# Altium schematic symbol library SCH - POWER - SWITCHMODE - TI TPS54618C-Q1RTE.SchLib: 1 symbol
Pins are listed as number, name and electrical type; pins without a type are passive.

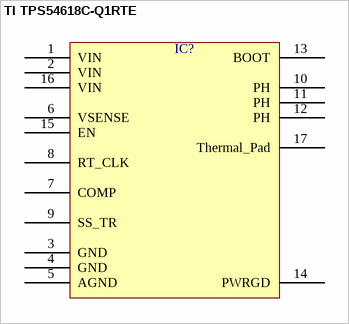
[diagram p0: symbol TI TPS54618C-Q1RTE]

## TI TPS54618C-Q1RTE
designator IC?  (value not drawn)
pins: 1 VIN, 2 VIN, 3 GND, 4 GND, 5 AGND, 6 VSENSE, 7 COMP, 8 RT_CLK, 9 SS_TR, 10 PH, 11 PH, 12 PH, 13 BOOT, 14 PWRGD, 15 EN, 16 VIN, 17 Thermal_Pad